# Altium schematic symbol library TD62083AF.SchLib: 1 symbol
Pins are listed as number, name and electrical type; pins without a type are passive.

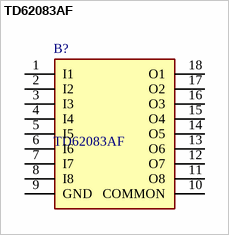
[diagram p0: symbol TD62083AF]

## TD62083AF
designator B?
IC DRIVER DARL SINK 8-CH 18-SOP; Manufacturer_Name: Toshiba; Geometry.Height: 2.45mm; Manufacturer_Part_Number: TD62083AF; Mouser Part Number: *; Mouser Price/Stock: *; Arrow Part Number: *; Arrow Price/Stock: *; Datasheet Link: https://pdf1.alldatasheet.com/datasheet-pdf/view/32261/TOSHIBA/TD62083AF.html
footprint SOIC127P1030X245-18N
pins: 1 I1, 2 I2, 3 I3, 4 I4, 5 I5, 6 I6, 7 I7, 8 I8, 9 GND, 10 COMMON, 11 O8, 12 O7, 13 O6, 14 O5, 15 O4, 16 O3, 17 O2, 18 O1